# Altium footprint library ESP-12S.PcbLib: 2 footprints
Each footprint in its own frame and in the unit in brackets; x right, y up, seen from the top. Pads: shape width x height; smd on the part's side, far side on the other; paste and mask are expansions set on the pad; w line width, h text height; cw(c..) or ccw(c..) is an arc to the next point about the centre after c.
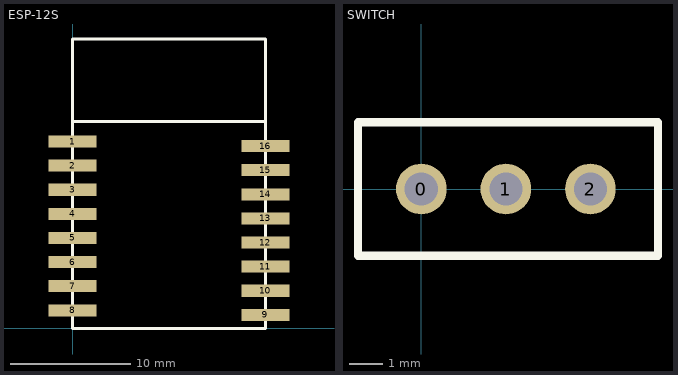
[diagram p0: the footprints below, top view; thin cyan lines are the x and y axes]

## ESP-12S [mm]
pads (16):
  rect 4x1 smd: 1(0,15.5) 2(0,13.5) 3(0,11.5) 4(0,9.5) 5(0,7.5) 6(0,5.5) 7(0,3.5) 8(0,1.5) 9(16.002,1.119) 10(16.002,3.119) 11(16.002,5.119) 12(16.002,7.119) 13(16.002,9.119) 14(16.002,11.119) 15(16.002,13.119) 16(16.002,15.119)
Top Overlay:
  lines w0.254: 0,17.145 16.002,17.145 ; 15.997,24 15.364,24 0,24 0,0 16,0 16,24.003

## SWITCH [mil]
pads (3):
  round 60 hole 39.37: 0(0,0) 1(100,0) 2(200,0)
Top Overlay:
  lines w10: -75,78.74 -75,-78.74 279.33,-78.74 ; -74.33,78.74 280,78.74 280,-78.74